# EAGLE library part RPI-1031 (library custom_components)
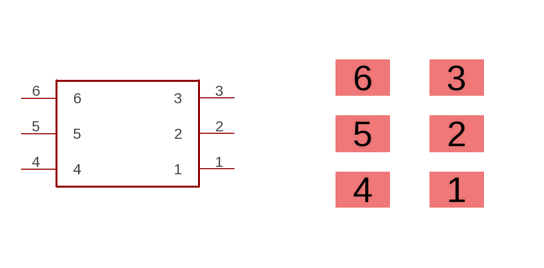
[diagram p0: symbol with the pads of RPI-1031; footprint RPI-1031]

Designator prefix -

## RPI-1031  [RPI-1031]
1  1
2  2
3  3
4  4
5  5
6  6

## Footprint RPI-1031 (pad centres in mm)
smd 1.35 x 0.9: 1 1.175,-1.4; 2 1.175,0; 3 1.175,1.4; 4 -1.175,-1.4; 5 -1.175,0; 6 -1.175,1.4